# Altium schematic symbol library PCB-Relay-Board-V1.SCHLIB: 49 symbols (part 1 of 2)
Pins are listed as number, name and electrical type; pins without a type are passive.

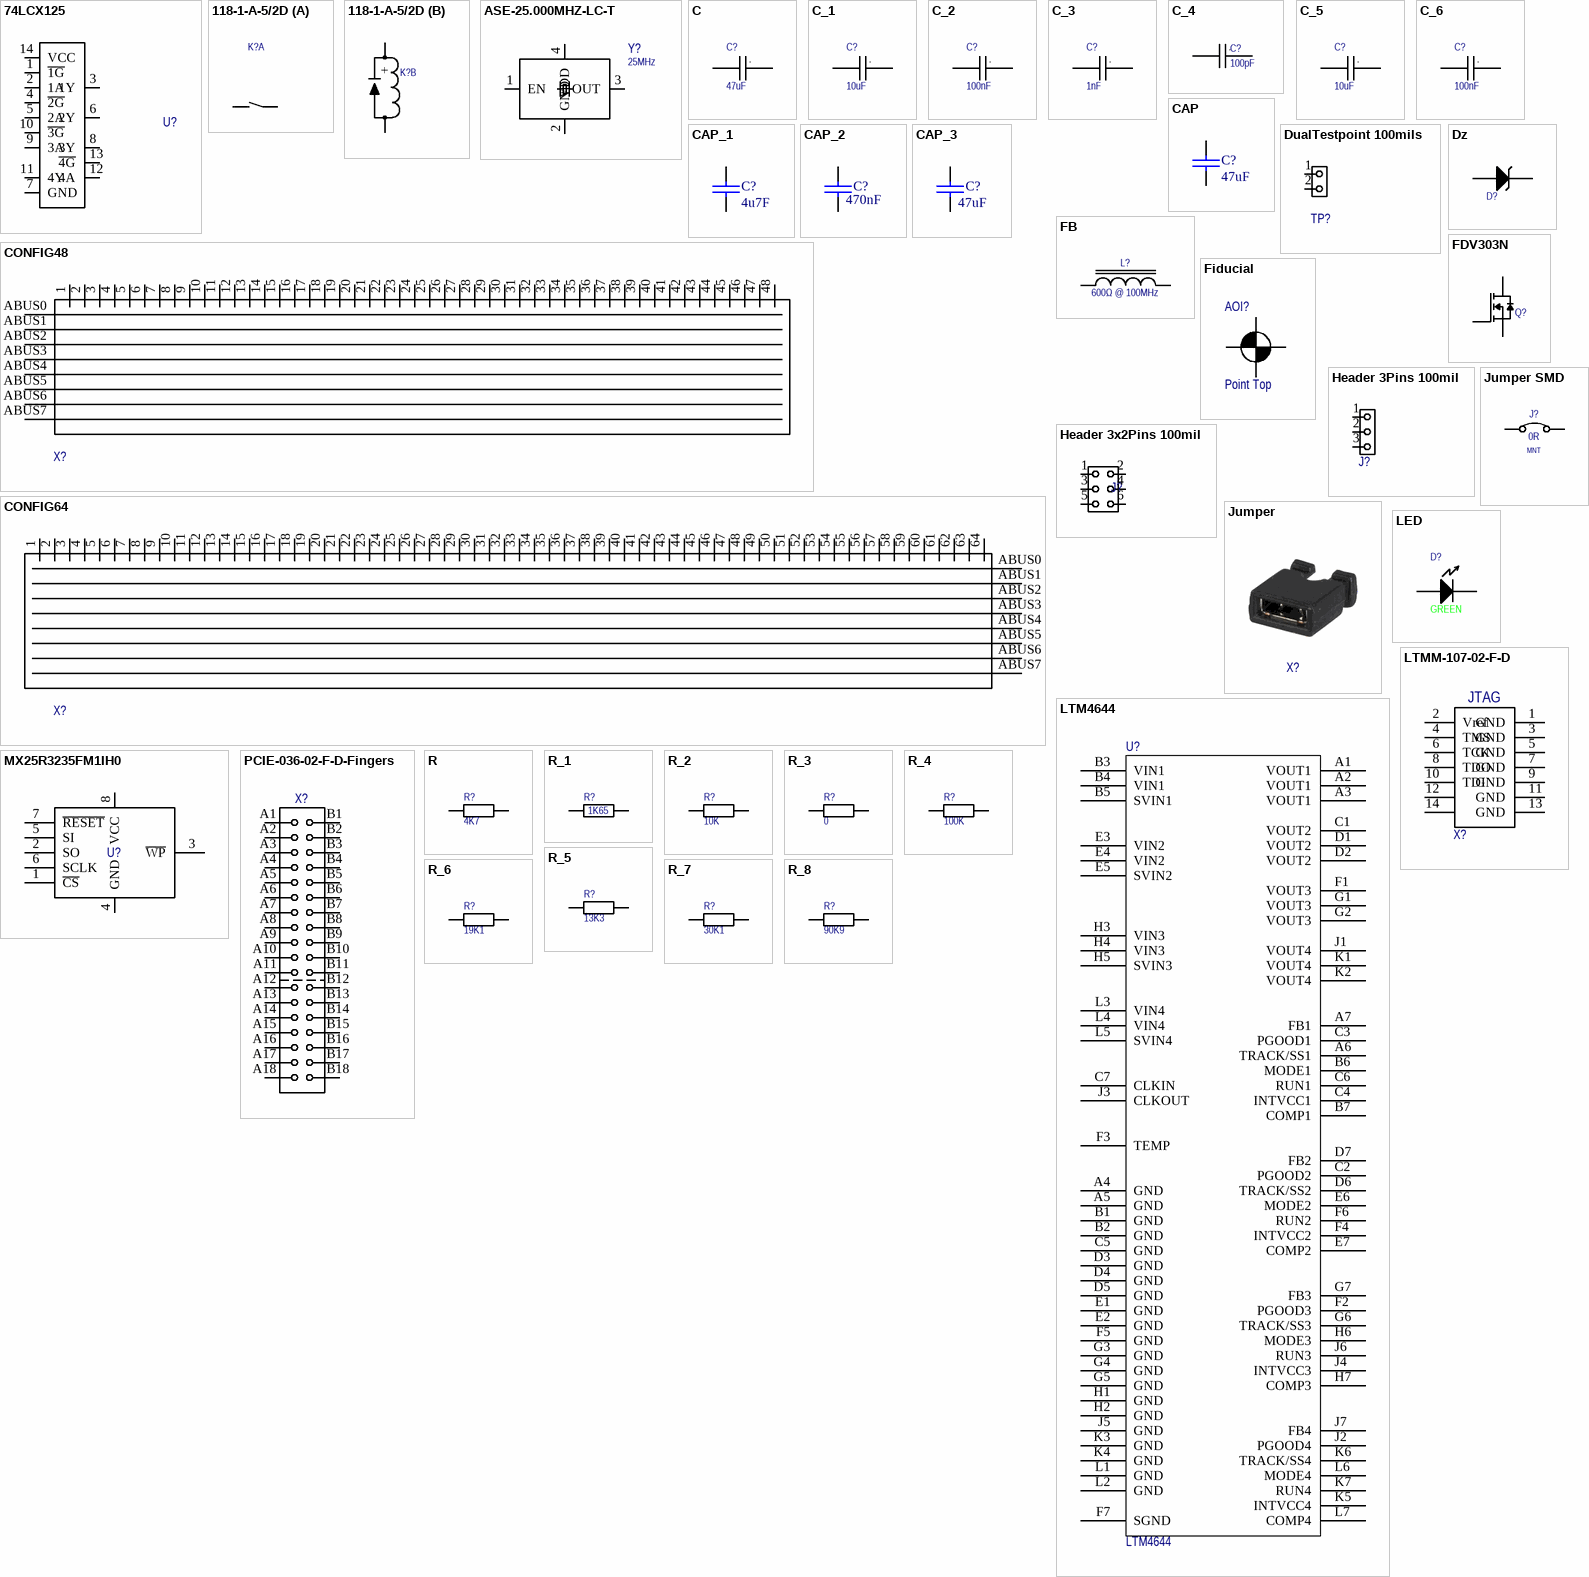
[diagram p0: symbols 74LCX125 to R_8]

## 74LCX125
designator U?, comment U  (value not drawn)
IC BUF NON-INVERT 3.6V 14TSSOP; 04. Manufacturer: STMicroelectronics; 07. Manufacturer  Part Number: 74LCX125YTTR; 01. Distributor: DigiKey; 02. Distributor Part Number: 497-13204-2-ND; 11. RoHS: YES; ComponentLink1Description: Info; ComponentLink2Description: DataSheet; Package: TSSOP14
footprint TSSOP14
pins: 1 ~{1G}, 2 1A, 3 1Y, 4 ~{2G}, 5 2A, 6 2Y, 7 GND, 8 3Y, 9 3A, 10 ~{3G}, 11 4Y, 12 4A, 13 ~{4G}, 14 VCC

## 118-1-A-5/2D
designator K?, comment K  (value not drawn)
5V Signal Relais, Normal Open; 04. Manufacturer: Pickering; 07. Manufacturer  Part Number: 118-1-A-5/2D; 03. Unit Price: 2.60; 05. Quantity: 1000; 06. Data Sheet: Pickering_series_118.pdf; 13. Created Date/Name: 20.12.17 S. Kaiser; Coil Resistance: 1500 Ohm; Max Carry Current: 1.2 A; Max Switch Current: 1A; Max Switch Voltage: 200V; Power Rating: 15W; 01. Distributor: Pickering; 02. Distributor Part Number: 118-1-A-5/2D; 09. Operating Temperature: -20°C ~ +85°C; 11. RoHS: 2011/65/EU; ComponentLink1Description: Info; ComponentLink1URL: http://www.pickeringrelay.com/; ComponentLink2Description: DataSheet; ComponentLink2URL: https://www.pickeringrelay.com/products/single-line-sil-series-111-119/single-line-sil-series-118/; Coil Voltage: 5V
footprint 118-1A (ATE Relay (NO))
part A pins: 3 CA, 4 CB
part B pins: 1 +, 2 -
1 alternate drawing of the same symbol

## ASE-25.000MHZ-LC-T
designator Y?, comment Frequency: 25MHz  (hidden comment: Y)
XTAL OSC XO 25.0000MHZ CMOS SMD; 04. Manufacturer: Abracon LLC; 07. Manufacturer  Part Number: ASE-25.000MHZ-LC-T; 03. Unit Price: 1.46; 13. Created Date/Name: AUG 2018 / Hören; 01. Distributor: DigiKey; 02. Distributor Part Number: 535-9568-1-ND; 11. RoHS: YES; ComponentLink1Description: Info; ComponentLink1URL: https://www.digikey.de/products/en?keywords=535-9568-1-ND; ComponentLink2Description: DataSheet; Package: 4SMD
footprint 4SMD
pins: 1 EN, 2 GND, 3 OUT, 4 VDD

## C
designator C?  value 47uF  (hidden comment: C)
CAP CER 47UF 10V X5R 1210; 04. Manufacturer: Samsung Electro-Mechanics; 07. Manufacturer  Part Number: CL32A476MPJNNNE; Tolerance: ±20%; 03. Unit Price: 0.88; 13. Created Date/Name: AUG2018/Hören; Voltage Rating: 10V; Type: X5R; ComponentLink1Description: Info; ComponentLink1URL: *; 02. Distributor Part Number: 1276-3380-6-ND; 09. Operating Temperature: -55°C ~ 85°C; 11. RoHS: YES; 01. Distributor: DigiKey; ComponentLink2Description: DataSheet; Package: 1210
simulation model CAP (Capacitor)
signal-integrity model Cap
footprint C0201 Reflow (SMT Capacitor 0201 Reflow Soldering)
footprint C0402 Reflow (SMT CAP 0402 Reflow Soldering)
footprint C0603 Reflow (SMT Capacitor 0603 Reflow Soldering)
footprint C0603 Wave (SMT Capacitor 0603 Wave Soldering)
footprint C0805 Reflow (SMT Capacitor 0805 Reflow Soldering)
footprint C0805 Wave (SMT Capacitor 0805 Wave Soldering)
footprint Model Name (Footprint not found)
footprint Model Name (Footprint not found)
footprint C1206 Reflow (SMT Capacitor 1206 Reflow Soldering)
footprint C1206 Wave (SMT Capacitor 1206 Wave Soldering)
footprint C1210 Reflow (SMT Capacitor 1210 Reflow Soldering)
footprint C1210 Wave (SMT Capacitor 1210 Wave Soldering)
footprint C1632 Reflow (SMT Capacitor 1632 Reflow Soldering)
footprint C1632 Wave (SMT Capacitor 1632 Wave Soldering)
footprint C1808 Reflow (SMT Capacitor 1808 Reflow Soldering)
footprint C1808 Wave (SMT Capacitor 1808 Wave Soldering)
footprint C1825 Reflow (SMT Capacitor 1825 Reflow Soldering)
footprint C1825 Wave (SMT Capacitor 1825 Wave Soldering)
footprint C2220 Reflow (SMT Capacitor 2220 Reflow Soldering)
footprint C2220 Wave (SMT Capacitor 2220 Wave Soldering)
footprint C2225 Reflow (SMT Capacitor 2225 Reflow Soldering)
footprint C2225 Wave (SMT Capacitor 2225 Wave Soldering)
pins: 1, 2
text: .

## C_1
designator C?, comment value 10uF  (hidden comment: C)
CAP CER 10UF 25V X7R 1206; 04. Manufacturer: TDK Corporation; 07. Manufacturer  Part Number: C3216X7R1E106K160AB; Tolerance: ±10%; 03. Unit Price: 0.66; 13. Created Date/Name: AUG2018/Hören; Voltage Rating: 25V; Type: X7R; ComponentLink1Description: Info; ComponentLink1URL: https://www.digikey.de/products/en?keywords=445-7705-6-ND; 02. Distributor Part Number: 445-7705-6-ND; 09. Operating Temperature: -55°C ~ 125°C; 11. RoHS: YES; 01. Distributor: DigiKey; ComponentLink2Description: DataSheet; Package: 1206
simulation model CAP (Capacitor)
signal-integrity model Cap
footprint C0201 Reflow (SMT Capacitor 0201 Reflow Soldering)
footprint C0402 Reflow (SMT CAP 0402 Reflow Soldering)
footprint C0603 Reflow (SMT Capacitor 0603 Reflow Soldering)
footprint C0603 Wave (SMT Capacitor 0603 Wave Soldering)
footprint C0805 Reflow (SMT Capacitor 0805 Reflow Soldering)
footprint C0805 Wave (SMT Capacitor 0805 Wave Soldering)
footprint Model Name (Footprint not found)
footprint Model Name (Footprint not found)
footprint C1206 Reflow (SMT Capacitor 1206 Reflow Soldering)
footprint C1206 Wave (SMT Capacitor 1206 Wave Soldering)
footprint C1210 Reflow (SMT Capacitor 1210 Reflow Soldering)
footprint C1210 Wave (SMT Capacitor 1210 Wave Soldering)
footprint C1632 Reflow (SMT Capacitor 1632 Reflow Soldering)
footprint C1632 Wave (SMT Capacitor 1632 Wave Soldering)
footprint C1808 Reflow (SMT Capacitor 1808 Reflow Soldering)
footprint C1808 Wave (SMT Capacitor 1808 Wave Soldering)
footprint C1825 Reflow (SMT Capacitor 1825 Reflow Soldering)
footprint C1825 Wave (SMT Capacitor 1825 Wave Soldering)
footprint C2220 Reflow (SMT Capacitor 2220 Reflow Soldering)
footprint C2220 Wave (SMT Capacitor 2220 Wave Soldering)
footprint C2225 Reflow (SMT Capacitor 2225 Reflow Soldering)
footprint C2225 Wave (SMT Capacitor 2225 Wave Soldering)
pins: 1, 2
text: .

## C_2
designator C?, comment value 100nF  (hidden comment: C)
CAP CER 0.1UF 25V X7R 0402; 04. Manufacturer: Yageo; 07. Manufacturer  Part Number: CC0402KRX7R8BB104; Tolerance: ±10%; 03. Unit Price: 0.09; 13. Created Date/Name: AUG2018/Hören; Voltage Rating: 25V; Type: X7R; ComponentLink1Description: Info; ComponentLink1URL: https://www.digikey.de/products/en?keywords=311-2077-6-ND; 02. Distributor Part Number: 311-2077-6-ND; 09. Operating Temperature: -55°C ~ 125°C; 11. RoHS: YES; 01. Distributor: DigiKey; ComponentLink2Description: DataSheet; Package: 0402
simulation model CAP (Capacitor)
signal-integrity model Cap
footprint C0201 Reflow (SMT Capacitor 0201 Reflow Soldering)
footprint C0402 Reflow (SMT CAP 0402 Reflow Soldering)
footprint C0603 Reflow (SMT Capacitor 0603 Reflow Soldering)
footprint C0603 Wave (SMT Capacitor 0603 Wave Soldering)
footprint C0805 Reflow (SMT Capacitor 0805 Reflow Soldering)
footprint C0805 Wave (SMT Capacitor 0805 Wave Soldering)
footprint Model Name (Footprint not found)
footprint Model Name (Footprint not found)
footprint C1206 Reflow (SMT Capacitor 1206 Reflow Soldering)
footprint C1206 Wave (SMT Capacitor 1206 Wave Soldering)
footprint C1210 Reflow (SMT Capacitor 1210 Reflow Soldering)
footprint C1210 Wave (SMT Capacitor 1210 Wave Soldering)
footprint C1632 Reflow (SMT Capacitor 1632 Reflow Soldering)
footprint C1632 Wave (SMT Capacitor 1632 Wave Soldering)
footprint C1808 Reflow (SMT Capacitor 1808 Reflow Soldering)
footprint C1808 Wave (SMT Capacitor 1808 Wave Soldering)
footprint C1825 Reflow (SMT Capacitor 1825 Reflow Soldering)
footprint C1825 Wave (SMT Capacitor 1825 Wave Soldering)
footprint C2220 Reflow (SMT Capacitor 2220 Reflow Soldering)
footprint C2220 Wave (SMT Capacitor 2220 Wave Soldering)
footprint C2225 Reflow (SMT Capacitor 2225 Reflow Soldering)
footprint C2225 Wave (SMT Capacitor 2225 Wave Soldering)
pins: 1, 2
text: .

## C_3
designator C?, comment value 1nF  (hidden comment: C)
CAP CER 1000PF 25V X7R 0402; 04. Manufacturer: KEMET; 07. Manufacturer  Part Number: C0402C102K3RACTU; Tolerance: ±10%; 03. Unit Price: 0.09; 13. Created Date/Name: AUG2018/Hören; Voltage Rating: 25V; Type: X7R; ComponentLink1Description: Info; ComponentLink1URL: https://www.digikey.de/products/en?keywords=399-1031-6-ND; 02. Distributor Part Number: 399-1031-6-ND; 09. Operating Temperature: -55°C ~ 125°C; 11. RoHS: YES; 01. Distributor: DigiKey; ComponentLink2Description: DataSheet; Package: 0402
simulation model CAP (Capacitor)
signal-integrity model Cap
footprint C0201 Reflow (SMT Capacitor 0201 Reflow Soldering)
footprint C0402 Reflow (SMT CAP 0402 Reflow Soldering)
footprint C0603 Reflow (SMT Capacitor 0603 Reflow Soldering)
footprint C0603 Wave (SMT Capacitor 0603 Wave Soldering)
footprint C0805 Reflow (SMT Capacitor 0805 Reflow Soldering)
footprint C0805 Wave (SMT Capacitor 0805 Wave Soldering)
footprint Model Name (Footprint not found)
footprint Model Name (Footprint not found)
footprint C1206 Reflow (SMT Capacitor 1206 Reflow Soldering)
footprint C1206 Wave (SMT Capacitor 1206 Wave Soldering)
footprint C1210 Reflow (SMT Capacitor 1210 Reflow Soldering)
footprint C1210 Wave (SMT Capacitor 1210 Wave Soldering)
footprint C1632 Reflow (SMT Capacitor 1632 Reflow Soldering)
footprint C1632 Wave (SMT Capacitor 1632 Wave Soldering)
footprint C1808 Reflow (SMT Capacitor 1808 Reflow Soldering)
footprint C1808 Wave (SMT Capacitor 1808 Wave Soldering)
footprint C1825 Reflow (SMT Capacitor 1825 Reflow Soldering)
footprint C1825 Wave (SMT Capacitor 1825 Wave Soldering)
footprint C2220 Reflow (SMT Capacitor 2220 Reflow Soldering)
footprint C2220 Wave (SMT Capacitor 2220 Wave Soldering)
footprint C2225 Reflow (SMT Capacitor 2225 Reflow Soldering)
footprint C2225 Wave (SMT Capacitor 2225 Wave Soldering)
pins: 1, 2
text: .

## C_4
designator C?, comment value 100pF  (hidden comment: C)
CAP CER 100PF 25V C0G/NP0 0402; 04. Manufacturer: KEMET; 07. Manufacturer  Part Number: C0402C101J3GACTU; Tolerance: ±5%; Type: C0G, NP0; 03. Unit Price: 0.09; 13. Created Date/Name: AUG2018/Hören; Voltage Rating: 25V; ComponentLink1Description: Info; ComponentLink1URL: https://www.digikey.de/products/en?keywords=399-1022-6-ND; 02. Distributor Part Number: 399-1022-6-ND; 09. Operating Temperature: -55°C ~ 125°C; 11. RoHS: YES; 01. Distributor: DigiKey; ComponentLink2Description: DataSheet; Package: 0402
simulation model CAP (Capacitor)
signal-integrity model Cap
footprint C0201 Reflow (SMT Capacitor 0201 Reflow Soldering)
footprint C0402 Reflow (SMT CAP 0402 Reflow Soldering)
footprint C0603 Reflow (SMT Capacitor 0603 Reflow Soldering)
footprint C0603 Wave (SMT Capacitor 0603 Wave Soldering)
footprint C0805 Reflow (SMT Capacitor 0805 Reflow Soldering)
footprint C0805 Wave (SMT Capacitor 0805 Wave Soldering)
footprint Model Name (Footprint not found)
footprint Model Name (Footprint not found)
footprint C1206 Reflow (SMT Capacitor 1206 Reflow Soldering)
footprint C1206 Wave (SMT Capacitor 1206 Wave Soldering)
footprint C1210 Reflow (SMT Capacitor 1210 Reflow Soldering)
footprint C1210 Wave (SMT Capacitor 1210 Wave Soldering)
footprint C1632 Reflow (SMT Capacitor 1632 Reflow Soldering)
footprint C1632 Wave (SMT Capacitor 1632 Wave Soldering)
footprint C1808 Reflow (SMT Capacitor 1808 Reflow Soldering)
footprint C1808 Wave (SMT Capacitor 1808 Wave Soldering)
footprint C1825 Reflow (SMT Capacitor 1825 Reflow Soldering)
footprint C1825 Wave (SMT Capacitor 1825 Wave Soldering)
footprint C2220 Reflow (SMT Capacitor 2220 Reflow Soldering)
footprint C2220 Wave (SMT Capacitor 2220 Wave Soldering)
footprint C2225 Reflow (SMT Capacitor 2225 Reflow Soldering)
footprint C2225 Wave (SMT Capacitor 2225 Wave Soldering)
pins: 1, 2
text: .

## C_5
designator C?, comment value 10uF  (hidden comment: C)
CAP CER 10UF 10V X7R 0805; 04. Manufacturer: Samsung Electro-Mechanics; 07. Manufacturer  Part Number: CL21B106KPQNNNE; Tolerance: ±10%; 03. Unit Price: 0.24; 13. Created Date/Name: AUG2018/Hören; Voltage Rating: 10V; Type: X7R; ComponentLink1Description: Info; ComponentLink1URL: https://www.digikey.de/products/en?keywords=1276-1764-6-ND; 02. Distributor Part Number: 1276-1764-6-ND; 09. Operating Temperature: -55°C ~ 125°C; 11. RoHS: YES; 01. Distributor: DigiKey; ComponentLink2Description: DataSheet; Package: 0805
simulation model CAP (Capacitor)
signal-integrity model Cap
footprint C0201 Reflow (SMT Capacitor 0201 Reflow Soldering)
footprint C0402 Reflow (SMT CAP 0402 Reflow Soldering)
footprint C0603 Reflow (SMT Capacitor 0603 Reflow Soldering)
footprint C0603 Wave (SMT Capacitor 0603 Wave Soldering)
footprint C0805 Reflow (SMT Capacitor 0805 Reflow Soldering)
footprint C0805 Wave (SMT Capacitor 0805 Wave Soldering)
footprint Model Name (Footprint not found)
footprint Model Name (Footprint not found)
footprint C1206 Reflow (SMT Capacitor 1206 Reflow Soldering)
footprint C1206 Wave (SMT Capacitor 1206 Wave Soldering)
footprint C1210 Reflow (SMT Capacitor 1210 Reflow Soldering)
footprint C1210 Wave (SMT Capacitor 1210 Wave Soldering)
footprint C1632 Reflow (SMT Capacitor 1632 Reflow Soldering)
footprint C1632 Wave (SMT Capacitor 1632 Wave Soldering)
footprint C1808 Reflow (SMT Capacitor 1808 Reflow Soldering)
footprint C1808 Wave (SMT Capacitor 1808 Wave Soldering)
footprint C1825 Reflow (SMT Capacitor 1825 Reflow Soldering)
footprint C1825 Wave (SMT Capacitor 1825 Wave Soldering)
footprint C2220 Reflow (SMT Capacitor 2220 Reflow Soldering)
footprint C2220 Wave (SMT Capacitor 2220 Wave Soldering)
footprint C2225 Reflow (SMT Capacitor 2225 Reflow Soldering)
footprint C2225 Wave (SMT Capacitor 2225 Wave Soldering)
pins: 1, 2
text: .

## C_6
designator C?, comment value 100nF  (hidden comment: C)
CAP CER 0.1UF 16V X7R 0402; 04. Manufacturer: KEMET; 07. Manufacturer  Part Number: C0402C104J4RACTU; Tolerance: ±5%; 03. Unit Price: 0.45; 13. Created Date/Name: AUG2018/Hören; Voltage Rating: 16V; Type: X7R; ComponentLink1Description: Info; ComponentLink1URL: https://www.digikey.de/product-detail/en/kemet/C0402C104J4RACTU/399-7761-6-ND/3472292; 02. Distributor Part Number: 399-7761-6-ND; 09. Operating Temperature: -55°C ~ 125°C; 11. RoHS: YES; 01. Distributor: DigiKey; ComponentLink2Description: DataSheet; ComponentLink2URL: https://content.kemet.com/datasheets/KEM_C1002_X7R_SMD.pdf; Package: 0402
simulation model CAP (Capacitor)
signal-integrity model Cap
footprint C0201 Reflow (SMT Capacitor 0201 Reflow Soldering)
footprint C0402 Reflow (SMT CAP 0402 Reflow Soldering)
footprint C0603 Reflow (SMT Capacitor 0603 Reflow Soldering)
footprint C0603 Wave (SMT Capacitor 0603 Wave Soldering)
footprint C0805 Reflow (SMT Capacitor 0805 Reflow Soldering)
footprint C0805 Wave (SMT Capacitor 0805 Wave Soldering)
footprint Model Name (Footprint not found)
footprint Model Name (Footprint not found)
footprint C1206 Reflow (SMT Capacitor 1206 Reflow Soldering)
footprint C1206 Wave (SMT Capacitor 1206 Wave Soldering)
footprint C1210 Reflow (SMT Capacitor 1210 Reflow Soldering)
footprint C1210 Wave (SMT Capacitor 1210 Wave Soldering)
footprint C1632 Reflow (SMT Capacitor 1632 Reflow Soldering)
footprint C1632 Wave (SMT Capacitor 1632 Wave Soldering)
footprint C1808 Reflow (SMT Capacitor 1808 Reflow Soldering)
footprint C1808 Wave (SMT Capacitor 1808 Wave Soldering)
footprint C1825 Reflow (SMT Capacitor 1825 Reflow Soldering)
footprint C1825 Wave (SMT Capacitor 1825 Wave Soldering)
footprint C2220 Reflow (SMT Capacitor 2220 Reflow Soldering)
footprint C2220 Wave (SMT Capacitor 2220 Wave Soldering)
footprint C2225 Reflow (SMT Capacitor 2225 Reflow Soldering)
footprint C2225 Wave (SMT Capacitor 2225 Wave Soldering)
pins: 1, 2
text: .

## CAP
designator C?, comment value 47uF  (hidden comment: C)
CAP CER 47UF 10V X5R 0805; MFR-PN: GRM32ER71A476KE15L; MFR: MURATA; MFR-TYPE: GRM series; 04. Manufacturer: Murata Electronics North America; 07. Manufacturer  Part Number: GRM21BR61A476ME15L; POPULATED: yes; Parameters: X7R, 10V, 10%; 03. Unit Price: 0.67; Tolerance: ±20%; Type: X7R; 3D-Export: No; Temperature Range: -55°C ~ 85°C; 01. Distributor: DigiKey; 02. Distributor Part Number: 490-9961-6-ND; 09. Operating Temperature: -55°C ~ 85°C; 11. RoHS: YES; Voltage Rating: 10V; ComponentLink4Description: Info; ComponentLink4URL: https://www.digikey.de/product-detail/en/murata-electronics-north-america/GRM21BR61A476ME15L/490-9961-6-ND/5027050; ComponentLink5Description: DataSheet; ComponentLink5URL: https://search.murata.co.jp/Ceramy/image/img/A01X/G101/ENG/GRM21BR61A476ME15-01.pdf
footprint C0805 (Chip Capacitor; Body 2.0x1.3mm (LxW typ), IPC High Density)
footprint C0805-1.45
signal-integrity model Cap
simulation model CAP
footprint C1210
footprint C0805 Reflow
pins: 1, 2
2 alternate drawings of the same symbol

## CAP_1
designator C?, comment value 4u7F  (hidden comment: C)
CAP CER 4.7UF 6.3V X5R 0402; 04. Manufacturer: Samsung Electro-Mechanics; 07. Manufacturer  Part Number: CL05A475KQ5NRNC; POPULATED: yes; Parameters: X7R, 6V3, 10%; 03. Unit Price: 0.28; Tolerance: 10%; Type: X7R; Voltage Rating: 6V3; 3D-Export: No; Temperature Range: -40°C/+85°C; 01. Distributor: DigiKey; 02. Distributor Part Number: 1276-1481-6-ND; 09. Operating Temperature: -55°C ~ 85°C; 11. RoHS: YES; ComponentLink4Description: DataSheet; ComponentLink4URL: https://media.digikey.com/pdf/Data%20Sheets/Samsung%20PDFs/CL_Series_MLCC_ds.pdf; ComponentLink5Description: Info; ComponentLink5URL: https://www.digikey.de/product-detail/en/samsung-electro-mechanics/CL05A475KQ5NRNC/1276-1481-6-ND/3891995
footprint C0402 (Chip Capacitor; Body 1.0x0.5mm (LxW typ), IPC High Density)
signal-integrity model Cap
simulation model CAP
footprint C0805
footprint C0402 RevOne
pins: 1, 2
2 alternate drawings of the same symbol

## CAP_2
designator C?, comment value 470nF  (hidden comment: C)
CAP CER 0.47UF 10V X5R 0402; 04. Manufacturer: Samsung Electro-Mechanics; 07. Manufacturer  Part Number: CL05A474KP5NNNC; POPULATED: yes; Parameters: X5R, 10V, 10%; 03. Unit Price: 0.09; Tolerance: 10%; 3D-Export: No; Temperature Range: -55°C ~ 85°C; 01. Distributor: DigiKey; 02. Distributor Part Number: 1276-1173-6-ND; 09. Operating Temperature: -55°C ~ 85°C; 11. RoHS: YES; Type: X5R; Voltage Rating: 10V; ComponentLink4Description: Info; ComponentLink4URL: https://www.digikey.de/product-detail/en/samsung-electro-mechanics/CL05A474KP5NNNC/1276-1173-6-ND/3891687; ComponentLink5Description: DataSheet; ComponentLink5URL: https://media.digikey.com/pdf/Data%20Sheets/Samsung%20PDFs/CL_Series_MLCC_ds.pdf
footprint C0402 (Chip Capacitor; Body 1.0x0.5mm (LxW typ), IPC High Density)
signal-integrity model Cap
simulation model CAP
footprint C0402 RevOne
pins: 1, 2
2 alternate drawings of the same symbol

## CAP_3
designator C?, comment value 47uF  (hidden comment: C)
CAP CER 47UF 10V X5R 1206; MFR-PN: GRM32ER71A476KE15L; MFR: MURATA; MFR-TYPE: GRM series; 04. Manufacturer: Samsung Electro-Mechanics; 07. Manufacturer  Part Number: CL31A476MPHNNNE; POPULATED: yes; Parameters: X7R, 10V, 10%; 03. Unit Price: 0.64; Tolerance: ±20%; Type: X7R; 3D-Export: No; Temperature Range: -55°C ~ 85°C; 01. Distributor: DigiKey; 02. Distributor Part Number: 1276-3063-6-ND; 09. Operating Temperature: -55°C ~ 85°C; 11. RoHS: YES; ComponentLink1Description: Info; ComponentLink1URL: https://www.digikey.de/product-detail/en/murata-electronics-north-america/GRM32EC70J107ME15L/490-10530-6-ND/5027076; Voltage Rating: 10V; ComponentLink4Description: Info; ComponentLink4URL: https://www.digikey.de/product-detail/en/samsung-electro-mechanics/CL31A476MPHNNNE/1276-3063-6-ND/3893578; ComponentLink5Description: DataSheet; ComponentLink5URL: https://media.digikey.com/pdf/Data%20Sheets/Samsung%20PDFs/CL_Series_MLCC_ds.pdf
footprint C1206 (Chip Capacitor; Body 3.2x1.6mm (LxW typ), IPC High Density)
footprint C1206-2.7
signal-integrity model Cap
simulation model CAP
footprint C1210
footprint C1206 Reflow
pins: 1, 2
2 alternate drawings of the same symbol

## CONFIG48
designator X?, comment X  (value not drawn)  (no BOM)
PCB Tester Configuration Matrix for 48 Relays over 8 ABUSes; 13. Created Date/Name: ??? / Hören; ComponentLink1Description: Info; ComponentLink2Description: DataSheet
footprint CONFIG48 (PCB Tester Configuration area (48 relays))
pins: 1, 2, 3, 4, 5, 6, 7, 8, 9, 10, 11, 12, 13, 14, 15, 16, 17, 18, 19, 20, 21, 22, 23, 24, 25, 26, 27, 28, 29, 30, 31, 32, 33, 34, 35, 36, 37, 38, 39, 40, 41, 42, 43, 44, 45, 46, 47, 48, ABUS0, ABUS1, ABUS2, ABUS3, ABUS4, ABUS5, ABUS6, ABUS7

## CONFIG64
designator X?, comment X  (value not drawn)  (no BOM)
PCB Tester Configuration Matrix for 48 Relays over 8 ABUSes; 13. Created Date/Name: ??? / Hören; ComponentLink1Description: Info; ComponentLink2Description: DataSheet
pins: 1, 2, 3, 4, 5, 6, 7, 8, 9, 10, 11, 12, 13, 14, 15, 16, 17, 18, 19, 20, 21, 22, 23, 24, 25, 26, 27, 28, 29, 30, 31, 32, 33, 34, 35, 36, 37, 38, 39, 40, 41, 42, 43, 44, 45, 46, 47, 48, 49, 50, 51, 52, 53, 54, 55, 56, 57, 58, 59, 60, 61, 62, 63, 64, ABUS0, ABUS1, ABUS2, ABUS3, ABUS4, ABUS5, ABUS6, ABUS7

## DualTestpoint 100mils
designator TP?, comment TP  (value not drawn)  (no BOM)
Dual testpoint, pitch 2.54mm; 04. Manufacturer: Samtec Inc.; 07. Manufacturer  Part Number: HMTSW-103-07-G-S-240; 03. Unit Price: 0.25; 13. Created Date/Name: AUG2018/Hören; 01. Distributor: Samtec Inc.; 02. Distributor Part Number: HMTSW-103-07-G-S-240; 11. RoHS: YES; ComponentLink1Description: Info; ComponentLink1URL: https://www.samtec.com/products/hmtsw-103-07-g-s-240; ComponentLink2Description: DataSheet; ComponentLink2URL: http://suddendocs.samtec.com/catalog_english/hmtsw.pdf
footprint DualTestpoint 100mils (Testpoint)
pins: 1, 2

## Dz
designator D?, comment D  (value not drawn)
DIODE SCHOTTKY 40V 5A SOD128; 04. Manufacturer: Nexperia USA Inc.; 07. Manufacturer  Part Number: PMEG4050EP,115; 03. Unit Price: 0.45; 13. Created Date/Name: AUG2018/Hören; 3D-Export: No; 01. Distributor: DigiKey; 02. Distributor Part Number: 1727-5842-6-ND; 09. Operating Temperature: <150°C; 11. RoHS: YES; ComponentLink1Description: Info; ComponentLink1URL: https://www.digikey.de/product-detail/en/nexperia-usa-inc/PMEG4050EP115/1727-5842-6-ND/2697559; ComponentLink2Description: DataSheet; ComponentLink2URL: https://assets.nexperia.com/documents/data-sheet/PMEG4050EP.pdf
footprint SOD128 (PMEG4050EP,115)
pins: 1 A, 2 C

## FB
designator L?, comment Nominal Impedance: 600Ω @ 100MHz  (hidden comment: L)
FERRITE BEAD 600 OHM 0805 1LN; 04. Manufacturer: Würth Elektronik; 07. Manufacturer  Part Number: 742792040; DCR: 150mΩ; Impedance Tolerance: %; 03. Unit Price: 0.22; 13. Created Date/Name: AUG2018/Hören; IRMS: 2A; ComponentLink1Description: Info; ComponentLink1URL: https://www.digikey.de/products/en?keywords=732-1620-6-ND; ComponentLink2Description: DataSheet; ComponentLink2URL: https://www.we-online.de/katalog/datasheet/742792040.pdf; 02. Distributor Part Number: 732-1620-6-ND; 09. Operating Temperature: -55°C ~ 125°C; 11. RoHS: YES; 01. Distributor: DigiKey; ISAT: *; Package: 0805; Tolerance: *; Value: *
footprint FB0603 (SMT Ferrite Bead 0603)
footprint FB0805 (SMT Ferrite Bead 0805)
footprint FB1206 (SMT Ferrite Bead 1206)
pins: 1, 2

## FDV303N
designator Q?, comment Q  (value not drawn)
MOSFET N-CH 25V 680MA SOT-23; 04. Manufacturer: ON Semiconductor; 07. Manufacturer  Part Number: FDV303N; 03. Unit Price: 0.41; 13. Created Date/Name: AUG 2018 / Hören; Rds On: 450 mΩ @ id=500mA & Vgs=4.5V; Vgs,th: 1.5V @ 250uA; Power Rating: 350mW; 3D-Export: No; 01. Distributor: DigiKey; 02. Distributor Part Number: FDV303NDKR-ND; 09. Operating Temperature: -55°C ~ 150°C (TJ); 11. RoHS: YES; ComponentLink1Description: Info; ComponentLink1URL: https://www.digikey.de/product-detail/en/on-semiconductor/FDV303N/FDV303NDKR-ND/1630434; ComponentLink2Description: DataSheet; ComponentLink2URL: https://media.digikey.com/pdf/Data%20Sheets/Fairchild%20PDFs/FDV303N.pdf; Vdss: 25V; Id: 680mA
footprint SOT23-3
pins: 1 G, 2 S, 3 D

## Fiducial
designator AOI?, comment Shape: Point Top  (hidden comment: AOI)  (no BOM)
Assembly AOI; 13. Created Date/Name: AUG2018/Hören; 01. Distributor: N/A; 02. Distributor Part Number: N/A; 03. Unit Price: N/A; 04. Manufacturer: N/A; 05. Quantity: N/A; 06. Data Sheet: N/A; 07. Manufacturer  Part Number: N/A; 08. Inhouse Stock: N/A; 09. Operating Temperature: N/A; 10. Weight: N/A; 11. RoHS: N/A; 12.UL94 Flammability: N/A; ComponentLink1Description: Info; ComponentLink2Description: Info
footprint Fiducial Cross
footprint Fiducial Point

## Header 3Pins 100mil
designator J?, comment J  (value not drawn)
CONN HEADER VERT 3POS 2.54MM; 04. Manufacturer: Samtec Inc.; 07. Manufacturer  Part Number: HMTSW-103-07-G-S-240; 03. Unit Price: 0.25; 13. Created Date/Name: AUG2018/Hören; 01. Distributor: Samtec Inc.; 02. Distributor Part Number: HMTSW-103-07-G-S-240; 11. RoHS: YES; ComponentLink1Description: Info; ComponentLink1URL: https://www.samtec.com/products/hmtsw-103-07-g-s-240; ComponentLink2Description: DataSheet; ComponentLink2URL: http://suddendocs.samtec.com/catalog_english/hmtsw.pdf
footprint Header 100mil 3x1 (HMTSW-103-07-G-S-240)
footprint CONNECTOR 100MIL 3x1
pins: 1, 2, 3

## Header 3x2Pins 100mil
designator J?, comment J  (value not drawn)
03. Unit Price: 0.25; 01. Distributor: Samtec Inc.; 11. RoHS: YES; ComponentLink1Description: Info; ComponentLink1URL: https://www.samtec.com/products/hmtsw-103-07-g-s-240; ComponentLink2Description: DataSheet; ComponentLink2URL: http://suddendocs.samtec.com/catalog_english/hmtsw.pdf
footprint Header 100mil 3x2
pins: 1, 2, 3, 4, 5, 6

## Jumper
designator X?, comment X  (value not drawn)
CONN JUMPER SHORTING .100" GOLD; 04. Manufacturer: Sullins Connector Solutions; 07. Manufacturer  Part Number: QPC02SXGN-RC; 03. Unit Price: 0.09; 13. Created Date/Name: AUG2018/Hören; 01. Distributor: DigiKey; 02. Distributor Part Number: S9337-ND; 09. Operating Temperature: -xx..+yy°C; 11. RoHS: ???; ComponentLink1Description: Info; ComponentLink1URL: https://www.digikey.de/product-detail/en/sullins-connector-solutions/QPC02SXGN-RC/S9337-ND/2618262; ComponentLink2Description: DataSheet

## Jumper SMD
designator J?, comment value 0R  POPULATED: MNT  (hidden comment: J)
RES SMD 0 OHM JUMPER 1/10W 0603; 04. Manufacturer: Yageo; 07. Manufacturer  Part Number: RC0603JR-070RL; 03. Unit Price: 0.09; 01. Distributor: DigiKey; 02. Distributor Part Number: 311-0.0GRDKR-ND; 09. Operating Temperature: -55°C ~ 155°C; 11. RoHS: YES; Package: 0603; ComponentLink4Description: Info; ComponentLink4URL: https://www.digikey.de/product-detail/en/yageo/RC0603JR-070RL/311-0.0GRDKR-ND/732569; ComponentLink5Description: DataSheet; ComponentLink5URL: http://www.yageo.com/documents/recent/PYu-RC_Group_51_RoHS_L_10.pdf
footprint JumperSMD (Chip Resistor, Body 1.6x0.8mm (LxW typ), IPC High Density)
pins: 1, 2

## LED
designator D?, comment Color: GREEN  (hidden comment: D)
LED GREEN DIFFUSED 0603 SMD; 04. Manufacturer: OSRAM Opto Semiconductors Inc.; 07. Manufacturer  Part Number: LG L29K-G2J1-24-Z; Vf: 1.7V; If: 2mA; Wave Length: 570nm; Viewing Angle: 160°; 03. Unit Price: 0.4; 13. Created Date/Name: AUG2018/Hören; ComponentLink1Description: Info; ComponentLink1URL: https://www.digikey.de/products/en?keywords=475-2709-6-ND; ComponentLink2Description: DataSheet; ComponentLink2URL: https://www.digikey.de/products/en?keywords=475-2709-6-ND; 02. Distributor Part Number: 475-2709-6-ND; 11. RoHS: YES; 01. Distributor: DigiKey
footprint L0603G (LTST-C191KGKT)
footprint L0603B (LTST-C191TBKT)
footprint L0603O (LTST-C191KFKT)
footprint L0603R (LTST-C191KRKT)
pins: 1 Anode, 2 Cathode

## LTM4644
designator U?, comment NicName: LTM4644  (hidden comment: U)
DC DC CONVERTER 4X0.6-5.5V; MFR-PN: LTM4644EY#PBF; MFR: LINEAR TECHNOLOGY; 04. Manufacturer: Linear Technology/Analog Devices; POPULATED: yes; 03. Unit Price: 39.30; 01. Distributor: DigiKey; 02. Distributor Part Number: LTM4644EY#PBF-ND; 07. Manufacturer  Part Number: LTM4644EY#PBF; 09. Operating Temperature: -40°C ~ 125°C; 11. RoHS: YES; ComponentLink4Description: Info; ComponentLink4URL: https://www.digikey.de/products/en?keywords=LTM4644EY%23PBF; ComponentLink5Description: DataSheet; ComponentLink5URL: http://www.analog.com/media/en/technical-documentation/data-sheets/4644fe.pdf
footprint LTM4644 (Footprint not found)
pins: A1 VOUT1, A2 VOUT1, A3 VOUT1, A4 GND, A5 GND, A6 TRACK/SS1, A7 FB1, B1 GND, B2 GND, B3 VIN1, B4 VIN1, B5 SVIN1, B6 MODE1, B7 COMP1, C1 VOUT2, C2 PGOOD2, C3 PGOOD1, C4 INTVCC1, C5 GND, C6 RUN1, C7 CLKIN, D1 VOUT2, D2 VOUT2, D3 GND, D4 GND, D5 GND, D6 TRACK/SS2, D7 FB2, E1 GND, E2 GND, E3 VIN2, E4 VIN2, E5 SVIN2, E6 MODE2, E7 COMP2, F1 VOUT3, F2 PGOOD3, F3 TEMP, F4 INTVCC2, F5 GND, F6 RUN2, F7 SGND, G1 VOUT3, G2 VOUT3, G3 GND, G4 GND, G5 GND, G6 TRACK/SS3, G7 FB3, H1 GND, H2 GND, H3 VIN3, H4 VIN3, H5 SVIN3, H6 MODE3, H7 COMP3, J1 VOUT4, J2 PGOOD4, J3 CLKOUT, J4 INTVCC3, J5 GND, J6 RUN3, J7 FB4, K1 VOUT4, K2 VOUT4, K3 GND, K4 GND, K5 INTVCC4, K6 TRACK/SS4, K7 RUN4, L1 GND, L2 GND, L3 VIN4, L4 VIN4, L5 SVIN4, L6 MODE4, L7 COMP4

## LTMM-107-02-F-D
designator X?, comment NickName: JTAG  (hidden comment: X)
CONN HEADER VERT 14POS 2MM; 04. Manufacturer: Samtec Inc.; 07. Manufacturer  Part Number: LTMM-107-02-F-D; 03. Unit Price: 2.38; 13. Created Date/Name: ??? / Hören; System: Connector; 01. Distributor: DigiKey; 02. Distributor Part Number: LTMM-107-02-F-D-ND; 11. RoHS: YES; ComponentLink1Description: Info; ComponentLink1URL: https://www.digikey.de/product-detail/en/samtec-inc/LTMM-107-02-F-D/LTMM-107-02-F-D-ND/8723899; ComponentLink2Description: DataSheet; ComponentLink2URL: https://www.samtec.com/products/ltmm
footprint LTMM-107-02-F-D (CONN HEADER VERT 14POS 2MM (Xilinx JTAG))
pins: 1 GND, 2 Vref, 3 GND, 4 TMS, 5 GND, 6 TCK, 7 GND, 8 TDO, 9 GND, 10 TDI, 11 GND, 12, 13 GND, 14

## MX25R3235FM1IH0
designator U?, comment U  (value not drawn)
IC FLASH 32M SPI 80MHZ 8SOP; 13. Created Date/Name: AUG 2018 / Hören; ComponentLink1Description: Info; ComponentLink1URL: https://www.digikey.de/product-detail/en/macronix/MX25R3235FM1IH0/1092-1175-ND/5957736; ComponentLink2Description: DataSheet; ComponentLink2URL: https://www.macronix.com/Lists/Datasheet/Attachments/7534/MX25R3235F%2c%20Wide%20Range%2c%2032Mb%2c%20v1.6.pdf
footprint SOIC8 (R-8) (Generic 8 lead SOIC Narrow Body)
pins: 1 ~{CS}, 2 SO, 3 ~{WP}, 4 GND, 5 SI, 6 SCLK, 7 ~{RESET}, 8 VCC

## PCIE-036-02-F-D-Fingers
designator X?, comment X  (value not drawn)  (no BOM)
CONN PCI Card Edge 36POS; System: Connector; ComponentLink1Description: Info; ComponentLink2Description: DataSheet; ComponentLink2URL: http://suddendocs.samtec.com/catalog_english/pcie.pdf
footprint PCIE-036-02-F-D-Fingers (PCB contacts for PCIE-036-02-F-D-TH)
pins: A1, A2, A3, A4, A5, A6, A7, A8, A9, A10, A11, A12, A13, A14, A15, A16, A17, A18, B1, B2, B3, B4, B5, B6, B7, B8, B9, B10, B11, B12, B13, B14, B15, B16, B17, B18

## R
designator R?  value 4K7  (hidden comment: R)
Resistor; Tolerance: ±1%; 13. Created Date/Name: AUG2018/Hören; ComponentLink1URL: *; ComponentLink1Description: Info; 09. Operating Temperature: -xx..+yy°C; 11. RoHS: ???; ComponentLink2Description: DataSheet; Package: *
simulation model RESISTOR (Resistor)
signal-integrity model Res
footprint TO247-2
footprint R0201 Reflow (SMT Resistor 0201 Reflow Soldering)
footprint R0402 Reflow (SMT Resistor 0402 Reflow Soldering)
footprint R0603 Reflow (SMT Resistor 0603 Reflow Soldering)
footprint R0603 Wave (SMT Resistor 0603 Wave Soldering)
footprint R0805 Wave (SMT Resistor 0805 Wave Soldering)
footprint R0805 Reflow (SMT Resistor 0805 Reflow Soldering)
footprint R01005 Reflow (SMT Resistor 01005 Reflow Soldering)
footprint R1020 Reflow (SMT Resistor 0805 Reflow Soldering)
footprint R1020 Wave (SMT Resistor 0805 Wave Soldering)
footprint R1812 Reflow (SMT Resistor 1812 Reflow Soldering)
footprint R1812 Wave (SMT Resistor 1812 Wave Soldering)
footprint R1206 Reflow (SMT Resistor 1206 Reflow Soldering)
footprint R1206 Wave (SMT Resistor 1206 Wave Soldering)
footprint R1210 Reflow (SMT Resistor 1210 Reflow Soldering)
footprint R1210 Wave (SMT Resistor 1210 Wave Soldering)
footprint R2010 Reflow (SMT Resistor 2010 Reflow Soldering)
footprint R2010 Wave (SMT Resistor 2010 Wave Soldering)
footprint R2512 Reflow (SMT Resistor 2512 Reflow Soldering)
footprint R2512 Wave (SMT Resistor 2512 Wave Soldering)
footprint TO-220-2-Standing
pins: 1, 2
1 alternate drawing of the same symbol

## R_1
designator R?, comment value 1K65  (hidden comment: R)
RES SMD 1.65K OHM 1% 1/16W 0402; 04. Manufacturer: Yageo; 07. Manufacturer  Part Number: RC0402FR-071K65L; 03. Unit Price: 0.09; 13. Created Date/Name: AUG2018/Hören; Power Rating: 63mW; Tolerance: ±1%; ComponentLink1URL: https://www.digikey.de/product-detail/en/yageo/RC0402FR-071K65L/YAG3043DKR-ND/5282914; ComponentLink1Description: Info; 02. Distributor Part Number: YAG3043DKR-ND; 09. Operating Temperature: -55°C ~ 155°C; 11. RoHS: YES; 01. Distributor: DigiKey; ComponentLink2Description: DataSheet; Type: Thick Film; Package: 0402
simulation model RESISTOR (Resistor)
signal-integrity model Res
footprint TO247-2
footprint R0201 Reflow (SMT Resistor 0201 Reflow Soldering)
footprint R0402 Reflow (SMT Resistor 0402 Reflow Soldering)
footprint R0603 Reflow (SMT Resistor 0603 Reflow Soldering)
footprint R0603 Wave (SMT Resistor 0603 Wave Soldering)
footprint R0805 Wave (SMT Resistor 0805 Wave Soldering)
footprint R0805 Reflow (SMT Resistor 0805 Reflow Soldering)
footprint R01005 Reflow (SMT Resistor 01005 Reflow Soldering)
footprint R1020 Reflow (SMT Resistor 0805 Reflow Soldering)
footprint R1020 Wave (SMT Resistor 0805 Wave Soldering)
footprint R1812 Reflow (SMT Resistor 1812 Reflow Soldering)
footprint R1812 Wave (SMT Resistor 1812 Wave Soldering)
footprint R1206 Reflow (SMT Resistor 1206 Reflow Soldering)
footprint R1206 Wave (SMT Resistor 1206 Wave Soldering)
footprint R1210 Reflow (SMT Resistor 1210 Reflow Soldering)
footprint R1210 Wave (SMT Resistor 1210 Wave Soldering)
footprint R2010 Reflow (SMT Resistor 2010 Reflow Soldering)
footprint R2010 Wave (SMT Resistor 2010 Wave Soldering)
footprint R2512 Reflow (SMT Resistor 2512 Reflow Soldering)
footprint R2512 Wave (SMT Resistor 2512 Wave Soldering)
footprint TO-220-2-Standing
pins: 1, 2
1 alternate drawing of the same symbol

## R_2
designator R?, comment value 10K  (hidden comment: R)
RES SMD 10K OHM 1% 1/16W 0402; 04. Manufacturer: Yageo; 07. Manufacturer  Part Number: RC0402FR-0710KL; 03. Unit Price: 0.09; 13. Created Date/Name: AUG2018/Hören; Power Rating: 63mW; Tolerance: ±1%; ComponentLink1URL: https://www.digikey.de/products/en?keywords=311-10.0KLRDKR-ND; ComponentLink1Description: Info; 02. Distributor Part Number: 311-10.0KLRDKR-ND; 09. Operating Temperature: -55°C ~ 155°C; 11. RoHS: YES; 01. Distributor: DigiKey; ComponentLink2Description: DataSheet; Type: Thick Film; Package: 0402
simulation model RESISTOR (Resistor)
signal-integrity model Res
footprint TO247-2
footprint R0201 Reflow (SMT Resistor 0201 Reflow Soldering)
footprint R0402 Reflow (SMT Resistor 0402 Reflow Soldering)
footprint R0603 Reflow (SMT Resistor 0603 Reflow Soldering)
footprint R0603 Wave (SMT Resistor 0603 Wave Soldering)
footprint R0805 Wave (SMT Resistor 0805 Wave Soldering)
footprint R0805 Reflow (SMT Resistor 0805 Reflow Soldering)
footprint R01005 Reflow (SMT Resistor 01005 Reflow Soldering)
footprint R1020 Reflow (SMT Resistor 0805 Reflow Soldering)
footprint R1020 Wave (SMT Resistor 0805 Wave Soldering)
footprint R1812 Reflow (SMT Resistor 1812 Reflow Soldering)
footprint R1812 Wave (SMT Resistor 1812 Wave Soldering)
footprint R1206 Reflow (SMT Resistor 1206 Reflow Soldering)
footprint R1206 Wave (SMT Resistor 1206 Wave Soldering)
footprint R1210 Reflow (SMT Resistor 1210 Reflow Soldering)
footprint R1210 Wave (SMT Resistor 1210 Wave Soldering)
footprint R2010 Reflow (SMT Resistor 2010 Reflow Soldering)
footprint R2010 Wave (SMT Resistor 2010 Wave Soldering)
footprint R2512 Reflow (SMT Resistor 2512 Reflow Soldering)
footprint R2512 Wave (SMT Resistor 2512 Wave Soldering)
footprint TO-220-2-Standing
pins: 1, 2
1 alternate drawing of the same symbol

## R_3
designator R?, comment value 0  (hidden comment: R)
RES SMD 0 OHM JUMPER 1/16W 0402; 04. Manufacturer: Yageo; 07. Manufacturer  Part Number: RC0402JR-070RL; 03. Unit Price: 0.09; 13. Created Date/Name: AUG2018/Hören; Power Rating: 63mW; ComponentLink1URL: https://www.digikey.de/products/en?keywords=311-0.0JRDKR-ND; ComponentLink1Description: Info; 02. Distributor Part Number: 311-0.0JRDKR-ND; 09. Operating Temperature: -55°C ~ 155°C; 11. RoHS: YES; 01. Distributor: DigiKey; ComponentLink2Description: DataSheet; Type: Thick Film; Package: 0402
simulation model RESISTOR (Resistor)
signal-integrity model Res
footprint TO247-2
footprint R0201 Reflow (SMT Resistor 0201 Reflow Soldering)
footprint R0402 Reflow (SMT Resistor 0402 Reflow Soldering)
footprint R0603 Reflow (SMT Resistor 0603 Reflow Soldering)
footprint R0603 Wave (SMT Resistor 0603 Wave Soldering)
footprint R0805 Wave (SMT Resistor 0805 Wave Soldering)
footprint R0805 Reflow (SMT Resistor 0805 Reflow Soldering)
footprint R01005 Reflow (SMT Resistor 01005 Reflow Soldering)
footprint R1020 Reflow (SMT Resistor 0805 Reflow Soldering)
footprint R1020 Wave (SMT Resistor 0805 Wave Soldering)
footprint R1812 Reflow (SMT Resistor 1812 Reflow Soldering)
footprint R1812 Wave (SMT Resistor 1812 Wave Soldering)
footprint R1206 Reflow (SMT Resistor 1206 Reflow Soldering)
footprint R1206 Wave (SMT Resistor 1206 Wave Soldering)
footprint R1210 Reflow (SMT Resistor 1210 Reflow Soldering)
footprint R1210 Wave (SMT Resistor 1210 Wave Soldering)
footprint R2010 Reflow (SMT Resistor 2010 Reflow Soldering)
footprint R2010 Wave (SMT Resistor 2010 Wave Soldering)
footprint R2512 Reflow (SMT Resistor 2512 Reflow Soldering)
footprint R2512 Wave (SMT Resistor 2512 Wave Soldering)
footprint TO-220-2-Standing
pins: 1, 2
1 alternate drawing of the same symbol

## R_4
designator R?, comment value 100K  (hidden comment: R)
RES SMD 100K OHM 1% 1/16W 0402; 04. Manufacturer: Yageo; 07. Manufacturer  Part Number: RC0402FR-07100KL; 03. Unit Price: 0.09; 13. Created Date/Name: AUG2018/Hören; Power Rating: 63mW; Tolerance: ±1%; ComponentLink1URL: *; ComponentLink1Description: Info; 02. Distributor Part Number: 311-100KLRDKR-ND; 09. Operating Temperature: -55°C ~ 155°C; 11. RoHS: YES; 01. Distributor: DigiKey; ComponentLink2Description: DataSheet; Type: Thick Film; Package: 0402
simulation model RESISTOR (Resistor)
signal-integrity model Res
footprint TO247-2
footprint R0201 Reflow (SMT Resistor 0201 Reflow Soldering)
footprint R0402 Reflow (SMT Resistor 0402 Reflow Soldering)
footprint R0603 Reflow (SMT Resistor 0603 Reflow Soldering)
footprint R0603 Wave (SMT Resistor 0603 Wave Soldering)
footprint R0805 Wave (SMT Resistor 0805 Wave Soldering)
footprint R0805 Reflow (SMT Resistor 0805 Reflow Soldering)
footprint R01005 Reflow (SMT Resistor 01005 Reflow Soldering)
footprint R1020 Reflow (SMT Resistor 0805 Reflow Soldering)
footprint R1020 Wave (SMT Resistor 0805 Wave Soldering)
footprint R1812 Reflow (SMT Resistor 1812 Reflow Soldering)
footprint R1812 Wave (SMT Resistor 1812 Wave Soldering)
footprint R1206 Reflow (SMT Resistor 1206 Reflow Soldering)
footprint R1206 Wave (SMT Resistor 1206 Wave Soldering)
footprint R1210 Reflow (SMT Resistor 1210 Reflow Soldering)
footprint R1210 Wave (SMT Resistor 1210 Wave Soldering)
footprint R2010 Reflow (SMT Resistor 2010 Reflow Soldering)
footprint R2010 Wave (SMT Resistor 2010 Wave Soldering)
footprint R2512 Reflow (SMT Resistor 2512 Reflow Soldering)
footprint R2512 Wave (SMT Resistor 2512 Wave Soldering)
footprint TO-220-2-Standing
pins: 1, 2
1 alternate drawing of the same symbol

## R_5
designator R?, comment value 13K3  (hidden comment: R)
RES SMD 13.3K OHM 1% 1/16W 0402; 04. Manufacturer: Yageo; 07. Manufacturer  Part Number: RC0402FR-0713K3L; 03. Unit Price: 0.09; 13. Created Date/Name: AUG2018/Hören; Power Rating: 63mW; Tolerance: ±1%; ComponentLink1URL: https://www.digikey.de/products/en?keywords=YAG2974DKR-ND; ComponentLink1Description: Info; 02. Distributor Part Number: YAG2974DKR-ND; 09. Operating Temperature: -55°C ~ 155°C; 11. RoHS: YES; 01. Distributor: DigiKey; ComponentLink2Description: DataSheet; Type: Thick Film; Package: 0402
simulation model RESISTOR (Resistor)
signal-integrity model Res
footprint TO247-2
footprint R0201 Reflow (SMT Resistor 0201 Reflow Soldering)
footprint R0402 Reflow (SMT Resistor 0402 Reflow Soldering)
footprint R0603 Reflow (SMT Resistor 0603 Reflow Soldering)
footprint R0603 Wave (SMT Resistor 0603 Wave Soldering)
footprint R0805 Wave (SMT Resistor 0805 Wave Soldering)
footprint R0805 Reflow (SMT Resistor 0805 Reflow Soldering)
footprint R01005 Reflow (SMT Resistor 01005 Reflow Soldering)
footprint R1020 Reflow (SMT Resistor 0805 Reflow Soldering)
footprint R1020 Wave (SMT Resistor 0805 Wave Soldering)
footprint R1812 Reflow (SMT Resistor 1812 Reflow Soldering)
footprint R1812 Wave (SMT Resistor 1812 Wave Soldering)
footprint R1206 Reflow (SMT Resistor 1206 Reflow Soldering)
footprint R1206 Wave (SMT Resistor 1206 Wave Soldering)
footprint R1210 Reflow (SMT Resistor 1210 Reflow Soldering)
footprint R1210 Wave (SMT Resistor 1210 Wave Soldering)
footprint R2010 Reflow (SMT Resistor 2010 Reflow Soldering)
footprint R2010 Wave (SMT Resistor 2010 Wave Soldering)
footprint R2512 Reflow (SMT Resistor 2512 Reflow Soldering)
footprint R2512 Wave (SMT Resistor 2512 Wave Soldering)
footprint TO-220-2-Standing
pins: 1, 2
1 alternate drawing of the same symbol

## R_6
designator R?, comment value 19K1  (hidden comment: R)
RES SMD 19.1K OHM 1% 1/16W 0402; 04. Manufacturer: Yageo; 07. Manufacturer  Part Number: RC0402FR-0719K1L; 03. Unit Price: 0.09; 13. Created Date/Name: AUG2018/Hören; Power Rating: 63mW; Tolerance: ±1%; ComponentLink1URL: *; ComponentLink1Description: Info; 02. Distributor Part Number: 311-19.1KLRDKR-ND; 09. Operating Temperature: -55°C ~ 155°C; 11. RoHS: YES; 01. Distributor: DigiKey; ComponentLink2Description: DataSheet; Type: Thick Film; Package: 0402
simulation model RESISTOR (Resistor)
signal-integrity model Res
footprint TO247-2
footprint R0201 Reflow (SMT Resistor 0201 Reflow Soldering)
footprint R0402 Reflow (SMT Resistor 0402 Reflow Soldering)
footprint R0603 Reflow (SMT Resistor 0603 Reflow Soldering)
footprint R0603 Wave (SMT Resistor 0603 Wave Soldering)
footprint R0805 Wave (SMT Resistor 0805 Wave Soldering)
footprint R0805 Reflow (SMT Resistor 0805 Reflow Soldering)
footprint R01005 Reflow (SMT Resistor 01005 Reflow Soldering)
footprint R1020 Reflow (SMT Resistor 0805 Reflow Soldering)
footprint R1020 Wave (SMT Resistor 0805 Wave Soldering)
footprint R1812 Reflow (SMT Resistor 1812 Reflow Soldering)
footprint R1812 Wave (SMT Resistor 1812 Wave Soldering)
footprint R1206 Reflow (SMT Resistor 1206 Reflow Soldering)
footprint R1206 Wave (SMT Resistor 1206 Wave Soldering)
footprint R1210 Reflow (SMT Resistor 1210 Reflow Soldering)
footprint R1210 Wave (SMT Resistor 1210 Wave Soldering)
footprint R2010 Reflow (SMT Resistor 2010 Reflow Soldering)
footprint R2010 Wave (SMT Resistor 2010 Wave Soldering)
footprint R2512 Reflow (SMT Resistor 2512 Reflow Soldering)
footprint R2512 Wave (SMT Resistor 2512 Wave Soldering)
footprint TO-220-2-Standing
pins: 1, 2
1 alternate drawing of the same symbol

## R_7
designator R?, comment value 30K1  (hidden comment: R)
RES SMD 30.1K OHM 1% 1/16W 0402; 04. Manufacturer: Yageo; 07. Manufacturer  Part Number: RC0402FR-0730K1L; 03. Unit Price: 0.09; 13. Created Date/Name: AUG2018/Hören; Power Rating: 63mW; Tolerance: ±1%; ComponentLink1URL: https://www.digikey.de/products/en?keywords=311-30.1KLRDKR-ND; ComponentLink1Description: Info; 02. Distributor Part Number: 311-30.1KLRDKR-ND; 09. Operating Temperature: -55°C ~ 155°C; 11. RoHS: YES; 01. Distributor: DigiKey; ComponentLink2Description: DataSheet; Type: Thick Film; Package: 0402
simulation model RESISTOR (Resistor)
signal-integrity model Res
footprint TO247-2
footprint R0201 Reflow (SMT Resistor 0201 Reflow Soldering)
footprint R0402 Reflow (SMT Resistor 0402 Reflow Soldering)
footprint R0603 Reflow (SMT Resistor 0603 Reflow Soldering)
footprint R0603 Wave (SMT Resistor 0603 Wave Soldering)
footprint R0805 Wave (SMT Resistor 0805 Wave Soldering)
footprint R0805 Reflow (SMT Resistor 0805 Reflow Soldering)
footprint R01005 Reflow (SMT Resistor 01005 Reflow Soldering)
footprint R1020 Reflow (SMT Resistor 0805 Reflow Soldering)
footprint R1020 Wave (SMT Resistor 0805 Wave Soldering)
footprint R1812 Reflow (SMT Resistor 1812 Reflow Soldering)
footprint R1812 Wave (SMT Resistor 1812 Wave Soldering)
footprint R1206 Reflow (SMT Resistor 1206 Reflow Soldering)
footprint R1206 Wave (SMT Resistor 1206 Wave Soldering)
footprint R1210 Reflow (SMT Resistor 1210 Reflow Soldering)
footprint R1210 Wave (SMT Resistor 1210 Wave Soldering)
footprint R2010 Reflow (SMT Resistor 2010 Reflow Soldering)
footprint R2010 Wave (SMT Resistor 2010 Wave Soldering)
footprint R2512 Reflow (SMT Resistor 2512 Reflow Soldering)
footprint R2512 Wave (SMT Resistor 2512 Wave Soldering)
footprint TO-220-2-Standing
pins: 1, 2
1 alternate drawing of the same symbol

## R_8
designator R?, comment value 90K9  (hidden comment: R)
RES SMD 90.9K OHM 1% 1/16W 0402; 04. Manufacturer: Yageo; 07. Manufacturer  Part Number: RC0402FR-0790K9L; 03. Unit Price: 0.09; 13. Created Date/Name: AUG2018/Hören; Power Rating: 63mW; Tolerance: ±1%; ComponentLink1URL: *; ComponentLink1Description: Info; 02. Distributor Part Number: 311-90.9KLRDKR-ND; 09. Operating Temperature: -55°C ~ 155°C; 11. RoHS: YES; 01. Distributor: DigiKey; ComponentLink2Description: DataSheet; Type: Thick Film; Package: 0402
simulation model RESISTOR (Resistor)
signal-integrity model Res
footprint TO247-2
footprint R0201 Reflow (SMT Resistor 0201 Reflow Soldering)
footprint R0402 Reflow (SMT Resistor 0402 Reflow Soldering)
footprint R0603 Reflow (SMT Resistor 0603 Reflow Soldering)
footprint R0603 Wave (SMT Resistor 0603 Wave Soldering)
footprint R0805 Wave (SMT Resistor 0805 Wave Soldering)
footprint R0805 Reflow (SMT Resistor 0805 Reflow Soldering)
footprint R01005 Reflow (SMT Resistor 01005 Reflow Soldering)
footprint R1020 Reflow (SMT Resistor 0805 Reflow Soldering)
footprint R1020 Wave (SMT Resistor 0805 Wave Soldering)
footprint R1812 Reflow (SMT Resistor 1812 Reflow Soldering)
footprint R1812 Wave (SMT Resistor 1812 Wave Soldering)
footprint R1206 Reflow (SMT Resistor 1206 Reflow Soldering)
footprint R1206 Wave (SMT Resistor 1206 Wave Soldering)
footprint R1210 Reflow (SMT Resistor 1210 Reflow Soldering)
footprint R1210 Wave (SMT Resistor 1210 Wave Soldering)
footprint R2010 Reflow (SMT Resistor 2010 Reflow Soldering)
footprint R2010 Wave (SMT Resistor 2010 Wave Soldering)
footprint R2512 Reflow (SMT Resistor 2512 Reflow Soldering)
footprint R2512 Wave (SMT Resistor 2512 Wave Soldering)
footprint TO-220-2-Standing
pins: 1, 2
1 alternate drawing of the same symbol

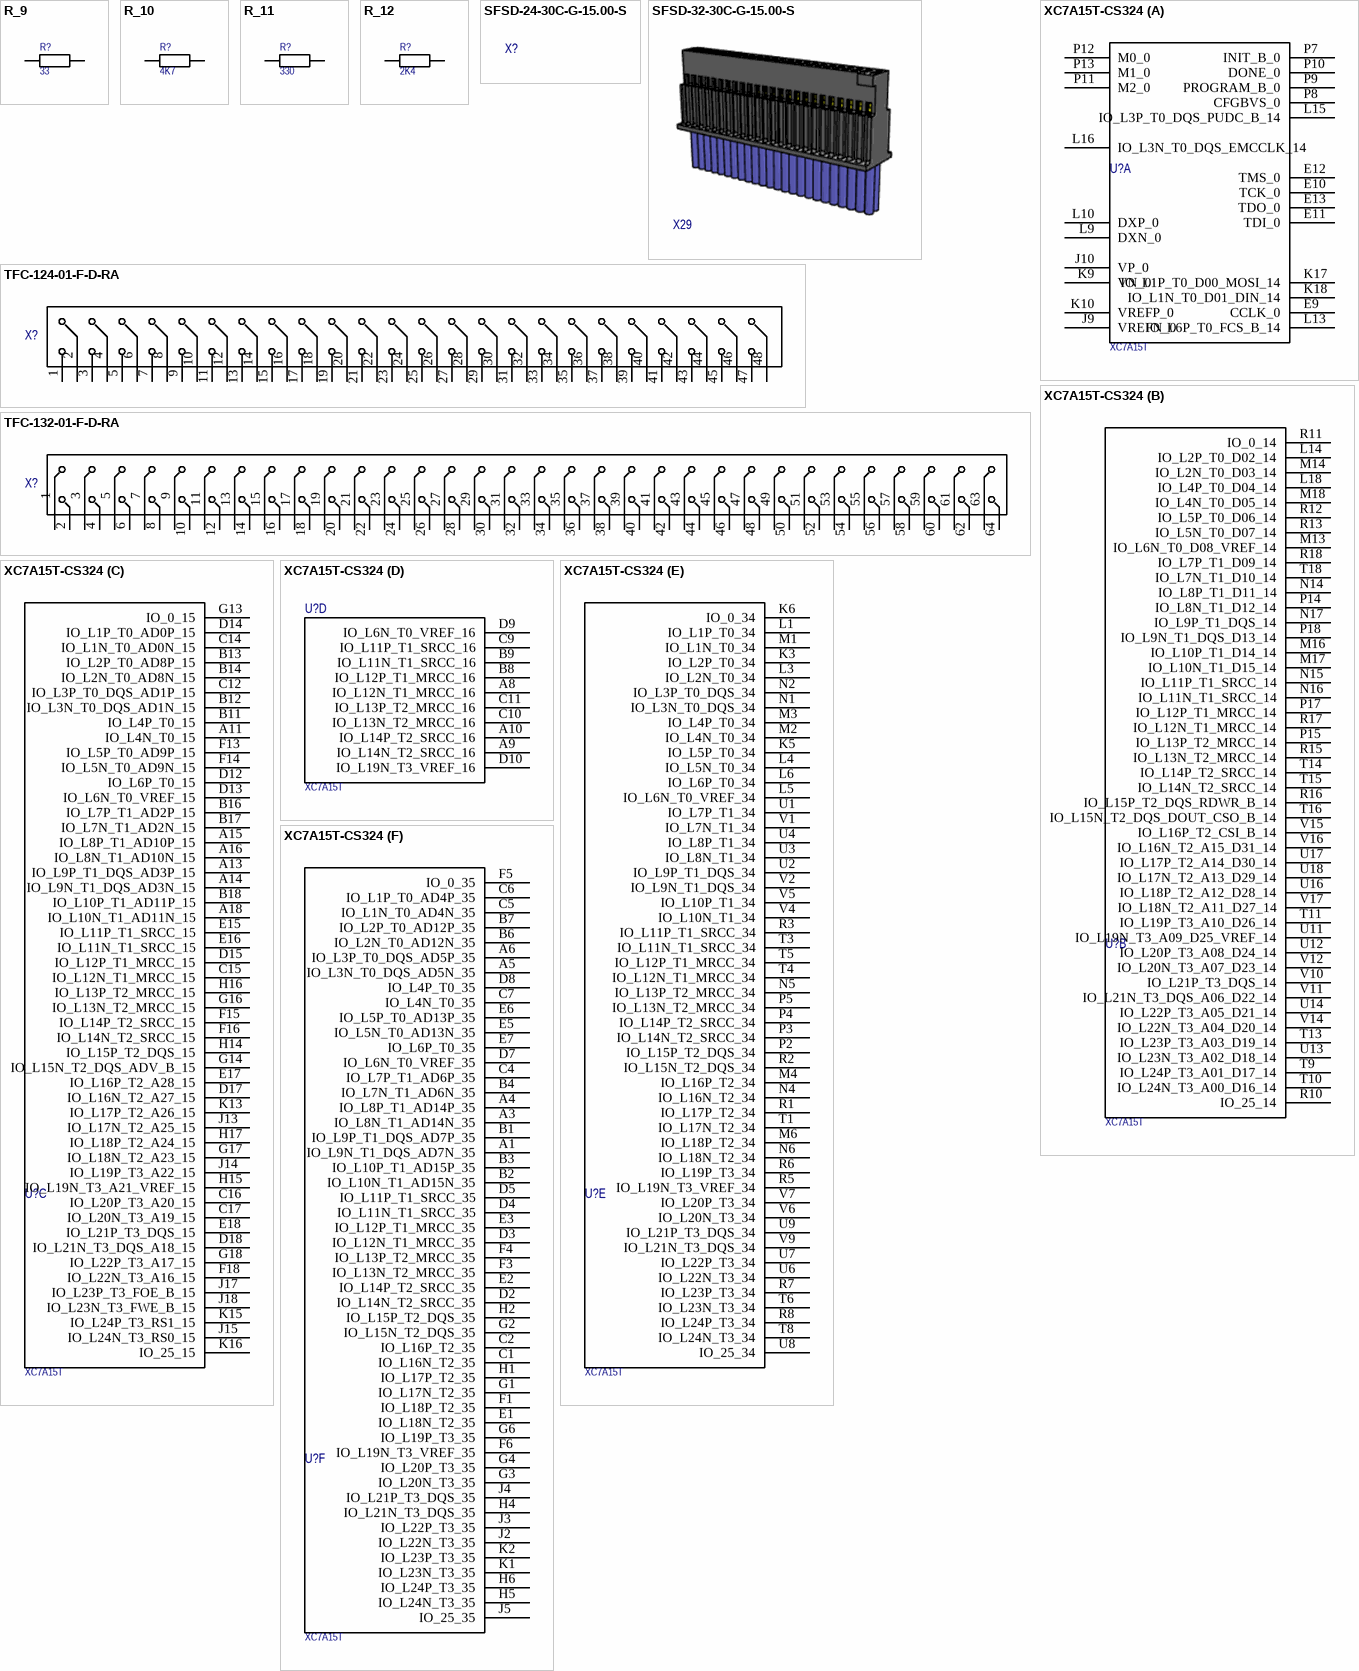
[diagram p1: symbols R_9 to XC7A15T-CS324]

## R_9
designator R?, comment value 33  (hidden comment: R)
RES SMD 33 OHM 1% 1/16W 0402; 04. Manufacturer: Yageo; 07. Manufacturer  Part Number: RC0402FR-0733RL; 03. Unit Price: 0.09; 13. Created Date/Name: AUG2018/Hören; Power Rating: 63mW; Tolerance: ±1%; ComponentLink1URL: https://www.digikey.de/products/en?keywords=311-33.0LRDKR-ND; ComponentLink1Description: Info; 02. Distributor Part Number: 311-33.0LRDKR-ND; 09. Operating Temperature: -55°C ~ 155°C; 11. RoHS: YES; 01. Distributor: DigiKey; ComponentLink2Description: DataSheet; Type: Thick Film; Package: 0402
simulation model RESISTOR (Resistor)
signal-integrity model Res
footprint TO247-2
footprint R0201 Reflow (SMT Resistor 0201 Reflow Soldering)
footprint R0402 Reflow (SMT Resistor 0402 Reflow Soldering)
footprint R0603 Reflow (SMT Resistor 0603 Reflow Soldering)
footprint R0603 Wave (SMT Resistor 0603 Wave Soldering)
footprint R0805 Wave (SMT Resistor 0805 Wave Soldering)
footprint R0805 Reflow (SMT Resistor 0805 Reflow Soldering)
footprint R01005 Reflow (SMT Resistor 01005 Reflow Soldering)
footprint R1020 Reflow (SMT Resistor 0805 Reflow Soldering)
footprint R1020 Wave (SMT Resistor 0805 Wave Soldering)
footprint R1812 Reflow (SMT Resistor 1812 Reflow Soldering)
footprint R1812 Wave (SMT Resistor 1812 Wave Soldering)
footprint R1206 Reflow (SMT Resistor 1206 Reflow Soldering)
footprint R1206 Wave (SMT Resistor 1206 Wave Soldering)
footprint R1210 Reflow (SMT Resistor 1210 Reflow Soldering)
footprint R1210 Wave (SMT Resistor 1210 Wave Soldering)
footprint R2010 Reflow (SMT Resistor 2010 Reflow Soldering)
footprint R2010 Wave (SMT Resistor 2010 Wave Soldering)
footprint R2512 Reflow (SMT Resistor 2512 Reflow Soldering)
footprint R2512 Wave (SMT Resistor 2512 Wave Soldering)
footprint TO-220-2-Standing
pins: 1, 2
1 alternate drawing of the same symbol